# Altium schematic symbol library ser_sch_lib.SchLib: 11 symbols
Pins are listed as number, name and electrical type; pins without a type are passive.

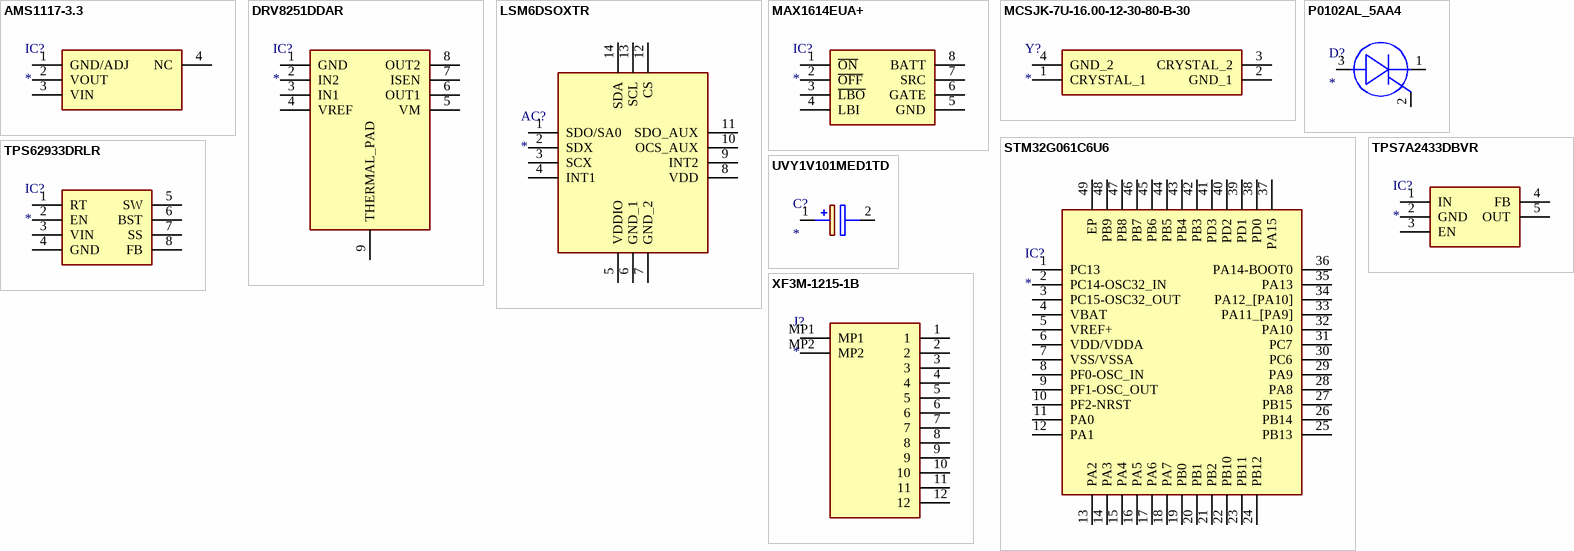
[diagram p0: symbols AMS1117-3.3 to XF3M-1215-1B]

## AMS1117-3.3
designator IC?
Integrated Circuit; Manufacturer_Name: Advanced; Manufacturer_Part_Number: AMS1117-3.3; Datasheet Link: https://datasheet.datasheetarchive.com/originals/distributors/Datasheets-28/DSA-550594.pdf; Height: 1.8mm
footprint SOT229P700X180-4N
pins: 1 GND/ADJ, 2 VOUT, 3 VIN, 4 NC

## DRV8251DDAR
designator IC?
Integrated Circuit; Manufacturer_Name: Texas Instruments; Manufacturer_Part_Number: DRV8251DDAR; Datasheet Link: https://www.arrow.com/en/products/drv8251ddar/texas-instruments?region=nac; Height: 1.7mm; Mouser Part Number: 595-DRV8251DDAR; Mouser Price/Stock: https://www.mouser.co.uk/ProductDetail/Texas-Instruments/DRV8251DDAR?qs=doiCPypUmgHTzZyfapGahQ%3D%3D; Arrow Part Number: DRV8251DDAR; Arrow Price/Stock: https://www.arrow.com/en/products/drv8251ddar/texas-instruments?region=nac
footprint SOIC127P600X170-9N
pins: 1 GND, 2 IN2, 3 IN1, 4 VREF, 5 VM, 6 OUT1, 7 ISEN, 8 OUT2, 9 THERMAL_PAD

## LSM6DSOXTR
designator AC?
Accelerometer; Manufacturer_Name: STMicroelectronics; Manufacturer_Part_Number: LSM6DSOXTR; Datasheet Link: https://www.st.com/resource/en/datasheet/lsm6dsox.pdf; Mouser Part Number: 511-LSM6DSOXTR; Mouser Price/Stock: https://www.mouser.co.uk/ProductDetail/STMicroelectronics/LSM6DSOXTR?qs=l7cgNqFNU1i9dcjzItLpVQ%3D%3D; Arrow Part Number: LSM6DSOXTR; Arrow Price/Stock: https://www.arrow.com/en/products/lsm6dsoxtr/stmicroelectronics?region=europe
footprint LGA-14_1
pins: 1 SDO/SA0, 2 SDX, 3 SCX, 4 INT1, 5 VDDIO, 6 GND_1, 7 GND_2, 8 VDD, 9 INT2, 10 OCS_AUX, 11 SDO_AUX, 12 CS, 13 SCL, 14 SDA

## MAX1614EUA+
designator IC?
Integrated Circuit; Manufacturer_Name: Analog Devices; Manufacturer_Part_Number: MAX1614EUA+; Datasheet Link: http://datasheets.maximintegrated.com/en/ds/MAX1614.pdf; Height: 1.1mm; Mouser Part Number: 700-MAX1614EUA; Mouser Price/Stock: https://www.mouser.co.uk/ProductDetail/Analog-Devices-Maxim-Integrated/MAX1614EUA%2b?qs=1THa7WoU59FiDBRRbRrFJA%3D%3D; Arrow Part Number: MAX1614EUA+; Arrow Price/Stock: https://www.arrow.com/en/products/max1614eua/maxim-integrated?region=nac
footprint SOP65P490X110-8N
pins: 1 ~{ON}, 2 ~{OFF}, 3 ~{LBO}, 4 LBI, 5 GND, 6 GATE, 7 SRC, 8 BATT

## MCSJK-7U-16.00-12-30-80-B-30
designator Y?
Crystal or Oscillator; Manufacturer_Name: Multicomp Pro; Manufacturer_Part_Number: MCSJK-7U-16.00-12-30-80-B-30; Datasheet Link: https://www.farnell.com/datasheets/2864166.pdf; Height: 0.8mm
footprint MCSJK7U1600123080B30
pins: 1 CRYSTAL_1, 2 GND_1, 3 CRYSTAL_2, 4 GND_2

## P0102AL_5AA4
designator D?
SCR; Manufacturer_Name: STMicroelectronics; Manufacturer_Part_Number: P0102AL 5AA4; Datasheet Link: https://www.st.com/resource/en/datasheet/p0102al.pdf; Height: 1.4mm; Mouser Part Number: 511-P0102AL; Mouser Price/Stock: https://www.mouser.co.uk/ProductDetail/STMicroelectronics/P0102AL-5AA4?qs=PjVWedEN3CRKQvFRu1Tr6Q%3D%3D; Arrow Part Number: P0102AL 5AA4; Arrow Price/Stock: https://www.arrow.com/en/products/p0102al5aa4/stmicroelectronics?region=nac
footprint SOT95P255X140-3N
pins: 1 K, 2 G, 3 A

## STM32G061C6U6
designator IC?
Integrated Circuit; Manufacturer_Name: STMicroelectronics; Manufacturer_Part_Number: STM32G061C6U6; Datasheet Link: https://www.st.com/resource/en/datasheet/stm32g061c6.pdf; Height: 0.6mm; Mouser Part Number: 511-STM32G061C6U6; Mouser Price/Stock: https://www.mouser.co.uk/ProductDetail/STMicroelectronics/STM32G061C6U6?qs=CiayqK2gdcKUDq0OUzUqqg%3D%3D
footprint QFN50P700X700X60-49N-D
pins: 1 PC13, 2 PC14-OSC32_IN, 3 PC15-OSC32_OUT, 4 VBAT, 5 VREF+, 6 VDD/VDDA, 7 VSS/VSSA, 8 PF0-OSC_IN, 9 PF1-OSC_OUT, 10 PF2-NRST, 11 PA0, 12 PA1, 13 PA2, 14 PA3, 15 PA4, 16 PA5, 17 PA6, 18 PA7, 19 PB0, 20 PB1, 21 PB2, 22 PB10, 23 PB11, 24 PB12, 25 PB13, 26 PB14, 27 PB15, 28 PA8, 29 PA9, 30 PC6, 31 PC7, 32 PA10, 33 PA11_[PA9], 34 PA12_[PA10], 35 PA13, 36 PA14-BOOT0, 37 PA15, 38 PD0, 39 PD1, 40 PD2, 41 PD3, 42 PB3, 43 PB4, 44 PB5, 45 PB6, 46 PB7, 47 PB8, 48 PB9, 49 EP

## TPS7A2433DBVR
designator IC?
Integrated Circuit; Manufacturer_Name: Texas Instruments; Manufacturer_Part_Number: TPS7A2433DBVR; Datasheet Link: https://www.ti.com/lit/gpn/TPS7A24; Height: 1.45mm; Mouser Part Number: 595-TPS7A2433DBVR; Mouser Price/Stock: https://www.mouser.co.uk/ProductDetail/Texas-Instruments/TPS7A2433DBVR?qs=wnTfsH77Xs7ROpwa%2Fm0jWA%3D%3D; Arrow Part Number: TPS7A2433DBVR; Arrow Price/Stock: null?region=nac
footprint SOT95P280X145-5N
pins: 1 IN, 2 GND, 3 EN, 4 FB, 5 OUT

## TPS62933DRLR
designator IC?
Integrated Circuit; Manufacturer_Name: Texas Instruments; Manufacturer_Part_Number: TPS62933DRLR; Datasheet Link: https://www.ti.com/lit/ds/symlink/tps62933.pdf?ts=1626073394234; Height: 0.6mm; Mouser Part Number: 595-TPS62933DRLR; Mouser Price/Stock: https://www.mouser.co.uk/ProductDetail/Texas-Instruments/TPS62933DRLR?qs=Rp5uXu7WBW9fv47wfQVntQ%3D%3D; Arrow Part Number: TPS62933DRLR; Arrow Price/Stock: https://www.arrow.com/en/products/tps62933drlr/texas-instruments?utm_currency=USD&region=nac
footprint SOTFL50P160X60-8N
pins: 1 RT, 2 EN, 3 VIN, 4 GND, 5 SW, 6 BST, 7 SS, 8 FB

## UVY1V101MED1TD
designator C?
Capacitor Polarised; Manufacturer_Name: Nichicon; Manufacturer_Part_Number: UVY1V101MED1TD; Datasheet Link: http://nichicon-us.com/english/products/pdfs/e-uvy.pdf; Height: 12.5mm; Arrow Part Number: UVY1V101MED1TD; Arrow Price/Stock: https://www.arrow.com/en/products/uvy1v101med1td/nichicon
footprint CAPPRD250W50D655H1250
pins: 1 +, 2 -

## XF3M-1215-1B
designator J?
Connector; Manufacturer_Name: Omron Electronics; Manufacturer_Part_Number: XF3M-1215-1B; Datasheet Link: https://datasheet.lcsc.com/szlcsc/Omron-Electronics-XF3M-1215-1B_C231431.pdf; Height: 2mm; Mouser Part Number: 653-XF3M-1215-1B; Mouser Price/Stock: https://www.mouser.co.uk/ProductDetail/Omron-Electronics/XF3M-1215-1B?qs=1He0yLMpldAQYeSJcjbchQ%3D%3D; Arrow Part Number: XF3M-1215-1B; Arrow Price/Stock: https://www.arrow.com/en/products/xf3m-1215-1b/omron
footprint XF3M12151B
pins: 1, 2, 3, 4, 5, 6, 7, 8, 9, 10, 11, 12, MP1, MP2